# Altium schematic symbol library 2024-01-01_20-53-31.SchLib: 1 symbol
Pins are listed as number, name and electrical type; pins without a type are passive.

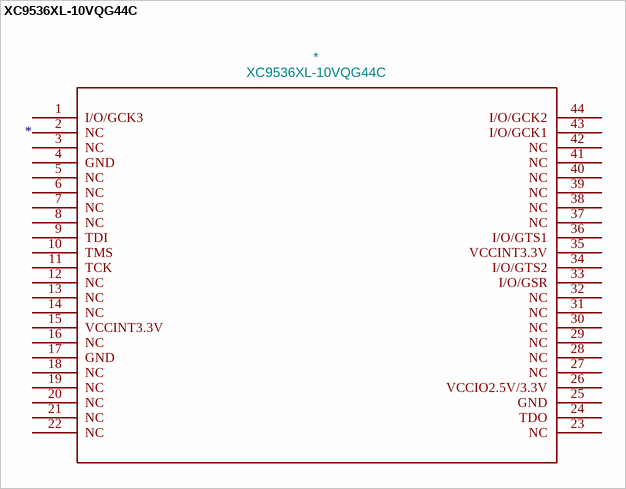
[diagram p0: symbol XC9536XL-10VQG44C]

## XC9536XL-10VQG44C
designator *  value XC9536XL-10VQG44C
ki_fp_filters: 44-VQFP_XIL 44-VQFP_XIL-M 44-VQFP_XIL-L; Footprint: 44-VQFP_XIL; Supplier: XC9536XL-10VQG44C; ki_keywords: XC9536XL-10VQG44C
footprint 44-VQFP_XIL
pins: 1 I/O/GCK3, 2 NC, 3 NC, 4 GND, 5 NC, 6 NC, 7 NC, 8 NC, 9 TDI, 10 TMS, 11 TCK, 12 NC, 13 NC, 14 NC, 15 VCCINT3.3V, 16 NC, 17 GND, 18 NC, 19 NC, 20 NC, 21 NC, 22 NC, 23 NC, 24 TDO, 25 GND, 26 VCCIO2.5V/3.3V, 27 NC, 28 NC, 29 NC, 30 NC, 31 NC, 32 NC, 33 I/O/GSR, 34 I/O/GTS2, 35 VCCINT3.3V, 36 I/O/GTS1, 37 NC, 38 NC, 39 NC, 40 NC, 41 NC, 42 NC, 43 I/O/GCK1, 44 I/O/GCK2